# Altium footprint library Analog Devices Amplifiers and Linear Comparators.PcbLib: 67 footprints (part 4 of 5)
Each footprint in its own frame and in the unit in brackets; x right, y up, seen from the top. Pads: shape width x height; smd on the part's side, far side on the other; paste and mask are expansions set on the pad; w line width, h text height; cw(c..) or ccw(c..) is an arc to the next point about the centre after c.
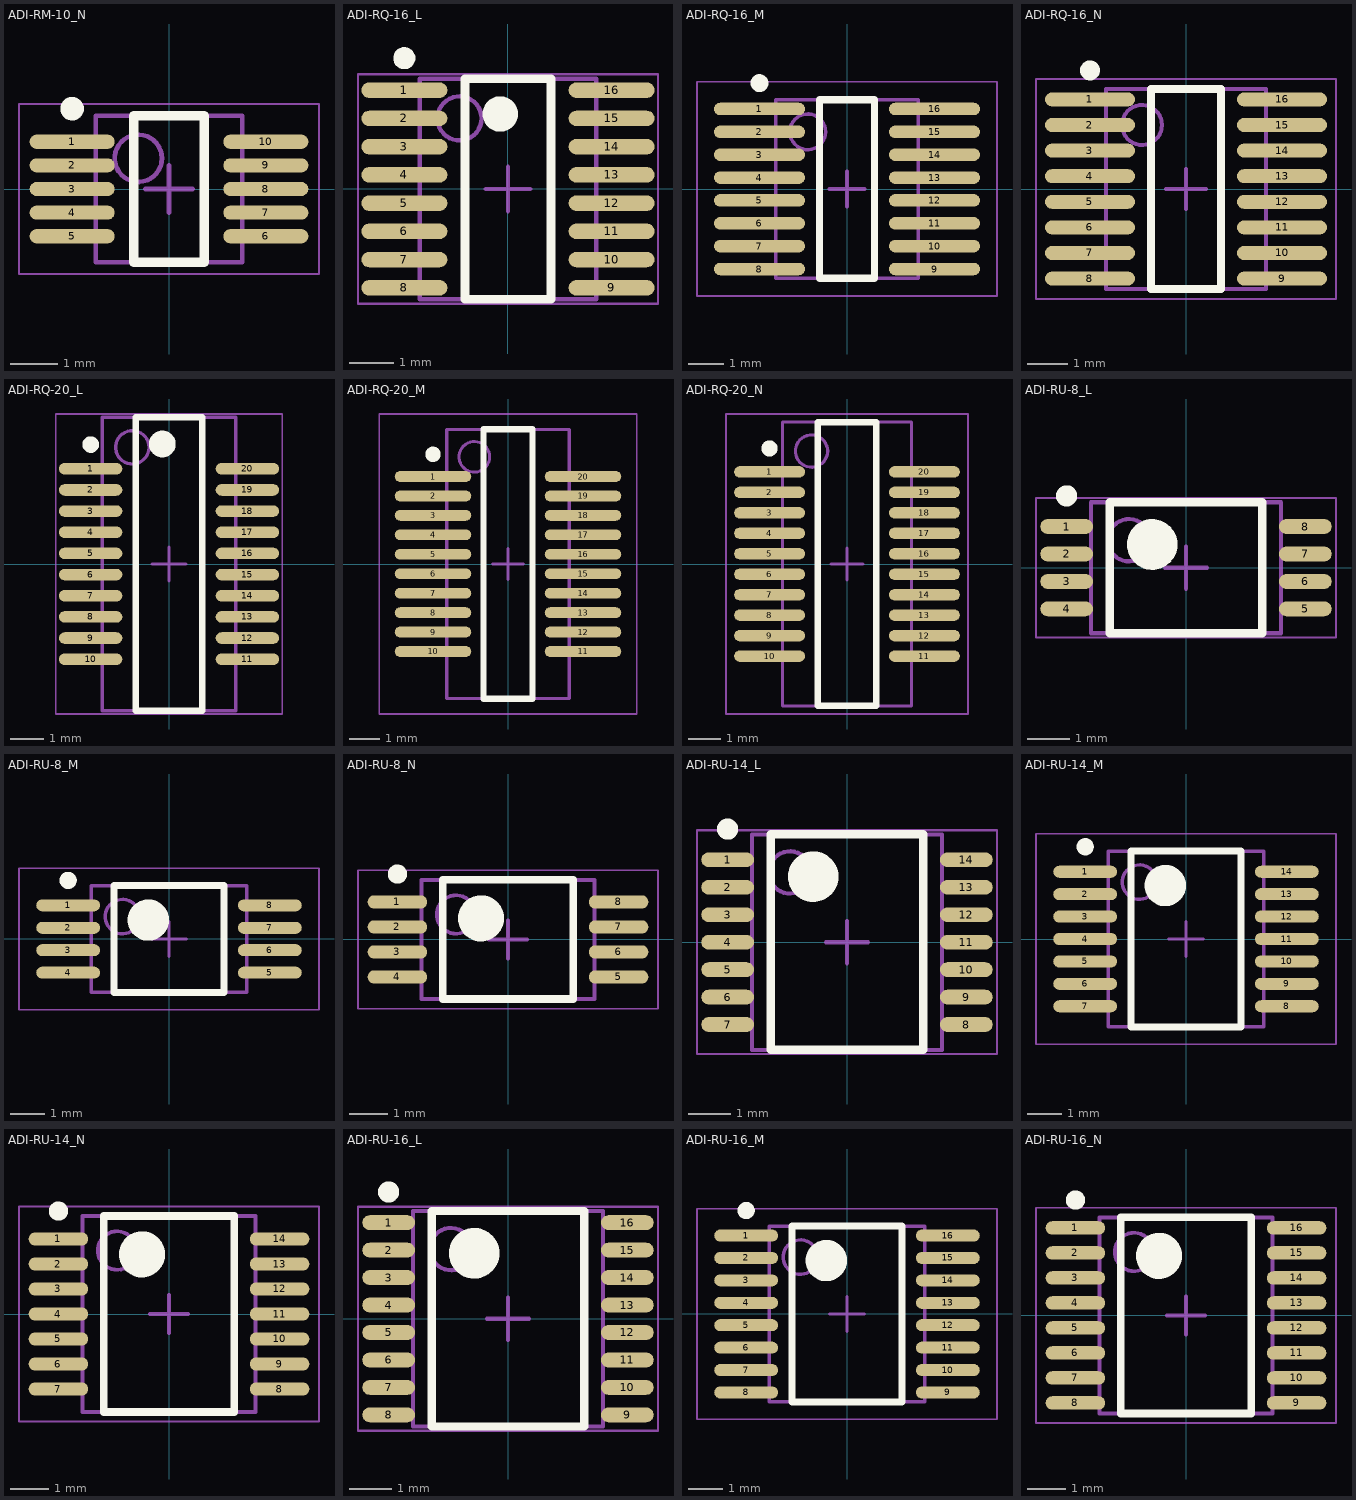
[diagram p3: the footprints below, top view; thin cyan lines are the x and y axes]

## ADI-RM-10_N [mm] "SOP, 10-Leads, Body 3x3mm, Pitch 0.5mm, IPC Medium Density"
height 1.1
pads (10):
  oval 1.8x0.3 smd: 1(-2.05,1) 2(-2.05,0.5) 3(-2.05,0) 4(-2.05,-0.5) 5(-2.05,-1) 6(2.05,-1) 7(2.05,-0.5) 8(2.05,0) 9(2.05,0.5) 10(2.05,1)
Top Overlay:
  circle w0.25: c-2.05,1.7 r0.125
  lines w0.2: -0.75,-1.55 0.75,-1.55 0.75,1.55 -0.75,1.55 -0.75,-1.55
Mechanical 13:
  circle w0.1: c-0.65,0.65 r0.5
  lines w0.1: -1.55,-1.55 1.55,-1.55 1.55,1.55 -1.55,1.55 -1.55,-1.55
Mechanical 15:
  lines w0.05: -3.175,-1.8 3.175,-1.8 3.175,1.8 -3.175,1.8 -3.175,-1.8
  lines w0.1: -0.5,0 0.5,0 ; 0,-0.5 0,0.5
3D body: height 1.1, standoff 0.05, extent -1.55,-1.55 1.55,1.55

## ADI-RQ-16_L [mm] "SOP, 16-Leads, Body 4.9x3.9mm, Pitch 0.64mm, IPC High Density"
height 1.75
pads (16):
  oval 1.95x0.35 smd: 1(-2.35,2.24) 2(-2.35,1.6) 3(-2.35,0.96) 4(-2.35,0.32) 5(-2.35,-0.32) 6(-2.35,-0.96) 7(-2.35,-1.6) 8(-2.35,-2.24) 9(2.35,-2.24) 10(2.35,-1.6) 11(2.35,-0.96) 12(2.35,-0.32) 13(2.35,0.32) 14(2.35,0.96) 15(2.35,1.6) 16(2.35,2.24)
Top Overlay:
  circle w0.25: c-2.35,2.965 r0.125
  circle w0.4: c-0.175,1.7 r0.2
  lines w0.2: -0.975,-2.5 -0.975,2.5 0.975,2.5 0.975,-2.5 -0.975,-2.5
Mechanical 13:
  circle w0.1: c-1.1,1.6 r0.5
  lines w0.1: -2,-2.5 -2,2.5 2,2.5 2,-2.5 -2,-2.5
Mechanical 15:
  lines w0.05: -3.4,-2.6 -3.4,2.6 3.4,2.6 3.4,-2.6 -3.4,-2.6
  lines w0.1: -0.5,0 0.5,0 ; 0,-0.5 0,0.5
3D body: height 1.75, standoff 0.1, extent -2,-2.5 2,2.5

## ADI-RQ-16_M [mm] "SOP, 16-Leads, Body 4.9x3.9mm, Pitch 0.64mm, IPC Low Density"
height 1.75
pads (16):
  oval 2.55x0.35 smd: 1(-2.45,2.24) 2(-2.45,1.6) 3(-2.45,0.96) 4(-2.45,0.32) 5(-2.45,-0.32) 6(-2.45,-0.96) 7(-2.45,-1.6) 8(-2.45,-2.24) 9(2.45,-2.24) 10(2.45,-1.6) 11(2.45,-0.96) 12(2.45,-0.32) 13(2.45,0.32) 14(2.45,0.96) 15(2.45,1.6) 16(2.45,2.24)
Top Overlay:
  circle w0.25: c-2.45,2.965 r0.125
  lines w0.2: -0.775,-2.5 -0.775,2.5 0.775,2.5 0.775,-2.5 -0.775,-2.5
Mechanical 13:
  circle w0.1: c-1.1,1.6 r0.5
  lines w0.1: -2,-2.5 -2,2.5 2,2.5 2,-2.5 -2,-2.5
Mechanical 15:
  lines w0.05: -4.2,-3 -4.2,3 4.2,3 4.2,-3 -4.2,-3
  lines w0.1: -0.5,0 0.5,0 ; 0,-0.5 0,0.5
3D body: height 1.75, standoff 0.1, extent -2,-2.5 2,2.5

## ADI-RQ-16_N [mm] "SOP, 16-Leads, Body 4.9x3.9mm, Pitch 0.64mm, IPC Medium Density"
height 1.75
pads (16):
  oval 2.25x0.35 smd: 1(-2.4,2.24) 2(-2.4,1.6) 3(-2.4,0.96) 4(-2.4,0.32) 5(-2.4,-0.32) 6(-2.4,-0.96) 7(-2.4,-1.6) 8(-2.4,-2.24) 9(2.4,-2.24) 10(2.4,-1.6) 11(2.4,-0.96) 12(2.4,-0.32) 13(2.4,0.32) 14(2.4,0.96) 15(2.4,1.6) 16(2.4,2.24)
Top Overlay:
  circle w0.25: c-2.4,2.965 r0.125
  lines w0.2: -0.875,-2.5 0.875,-2.5 0.875,2.5 -0.875,2.5 -0.875,-2.5
Mechanical 13:
  circle w0.1: c-1.1,1.6 r0.5
  lines w0.1: -2,-2.5 2,-2.5 2,2.5 -2,2.5 -2,-2.5
Mechanical 15:
  lines w0.05: -3.75,-2.75 3.75,-2.75 3.75,2.75 -3.75,2.75 -3.75,-2.75
  lines w0.1: -0.5,0 0.5,0 ; 0,-0.5 0,0.5
3D body: height 1.75, standoff 0.1, extent -2,-2.5 2,2.5

## ADI-RQ-20_L [mm] "SOP, 20-Leads, Body 8.66x3.9mm, Pitch 0.635mm, IPC High Density"
height 1.76
pads (20):
  oval 1.9x0.35 smd: 1(-2.35,2.857) 2(-2.35,2.222) 3(-2.35,1.587) 4(-2.35,0.953) 5(-2.35,0.318) 6(-2.35,-0.318) 7(-2.35,-0.953) 8(-2.35,-1.587) 9(-2.35,-2.222) 10(-2.35,-2.857) 11(2.35,-2.857) 12(2.35,-2.222) 13(2.35,-1.587) 14(2.35,-0.953) 15(2.35,-0.318) 16(2.35,0.318) 17(2.35,0.953) 18(2.35,1.587) 19(2.35,2.222) 20(2.35,2.857)
Top Overlay:
  circle w0.25: c-2.35,3.582 r0.125
  circle w0.4: c-0.2,3.6 r0.2
  lines w0.2: -1,-4.4 -1,4.4 1,4.4 1,-4.4 -1,-4.4
Mechanical 13:
  circle w0.1: c-1.1,3.5 r0.5
  lines w0.1: -2,-4.4 -2,4.4 2,4.4 2,-4.4 -2,-4.4
Mechanical 15:
  lines w0.05: -3.4,-4.5 -3.4,4.5 3.4,4.5 3.4,-4.5 -3.4,-4.5
  lines w0.1: -0.5,0 0.5,0 ; 0,-0.5 0,0.5
3D body: height 1.76, standoff 0.1, extent -2,-4.4 2,4.4

## ADI-RQ-20_M [mm] "SOP, 20-Leads, Body 8.66x3.9mm, Pitch 0.635mm, IPC Low Density"
height 1.76
pads (20):
  oval 2.5x0.35 smd: 1(-2.45,2.857) 2(-2.45,2.222) 3(-2.45,1.587) 4(-2.45,0.953) 5(-2.45,0.318) 6(-2.45,-0.318) 7(-2.45,-0.953) 8(-2.45,-1.587) 9(-2.45,-2.222) 10(-2.45,-2.857) 11(2.45,-2.857) 12(2.45,-2.222) 13(2.45,-1.587) 14(2.45,-0.953) 15(2.45,-0.318) 16(2.45,0.318) 17(2.45,0.953) 18(2.45,1.587) 19(2.45,2.222) 20(2.45,2.857)
Top Overlay:
  circle w0.25: c-2.45,3.582 r0.125
  lines w0.2: -0.8,-4.4 -0.8,4.4 0.8,4.4 0.8,-4.4 -0.8,-4.4
Mechanical 13:
  circle w0.1: c-1.1,3.5 r0.5
  lines w0.1: -2,-4.4 -2,4.4 2,4.4 2,-4.4 -2,-4.4
Mechanical 15:
  lines w0.05: -4.2,-4.9 -4.2,4.9 4.2,4.9 4.2,-4.9 -4.2,-4.9
  lines w0.1: -0.5,0 0.5,0 ; 0,-0.5 0,0.5
3D body: height 1.76, standoff 0.1, extent -2,-4.4 2,4.4

## ADI-RQ-20_N [mm] "SOP, 20-Leads, Body 8.66x3.9mm, Pitch 0.635mm, IPC Medium Density"
height 1.76
pads (20):
  oval 2.2x0.35 smd: 1(-2.4,2.857) 2(-2.4,2.222) 3(-2.4,1.587) 4(-2.4,0.953) 5(-2.4,0.318) 6(-2.4,-0.318) 7(-2.4,-0.953) 8(-2.4,-1.587) 9(-2.4,-2.222) 10(-2.4,-2.857) 11(2.4,-2.857) 12(2.4,-2.222) 13(2.4,-1.587) 14(2.4,-0.953) 15(2.4,-0.318) 16(2.4,0.318) 17(2.4,0.953) 18(2.4,1.587) 19(2.4,2.222) 20(2.4,2.857)
Top Overlay:
  circle w0.25: c-2.4,3.582 r0.125
  lines w0.2: -0.9,-4.4 -0.9,4.4 0.9,4.4 0.9,-4.4 -0.9,-4.4
Mechanical 13:
  circle w0.1: c-1.1,3.5 r0.5
  lines w0.1: -2,-4.4 -2,4.4 2,4.4 2,-4.4 -2,-4.4
Mechanical 15:
  lines w0.05: -3.75,-4.65 -3.75,4.65 3.75,4.65 3.75,-4.65 -3.75,-4.65
  lines w0.1: -0.5,0 0.5,0 ; 0,-0.5 0,0.5
3D body: height 1.76, standoff 0.1, extent -2,-4.4 2,4.4

## ADI-RU-8_L [mm] "SOP, 8-Leads, Body 4.4x3mm, Pitch 0.65mm, IPC High Density"
height 1.2
pads (8):
  oval 1.25x0.35 smd: 1(-2.825,0.975) 2(-2.825,0.325) 3(-2.825,-0.325) 4(-2.825,-0.975) 5(2.825,-0.975) 6(2.825,-0.325) 7(2.825,0.325) 8(2.825,0.975)
Top Overlay:
  circle w0.25: c-2.825,1.7 r0.125
  circle w0.6: c-0.8,0.55 r0.3
  lines w0.2: -1.8,-1.55 -1.8,1.55 1.8,1.55 1.8,-1.55 -1.8,-1.55
Mechanical 13:
  circle w0.1: c-1.35,0.65 r0.5
  lines w0.1: -2.25,-1.55 -2.25,1.55 2.25,1.55 2.25,-1.55 -2.25,-1.55
Mechanical 15:
  lines w0.05: -3.55,-1.65 -3.55,1.65 3.55,1.65 3.55,-1.65 -3.55,-1.65
  lines w0.1: -0.5,0 0.5,0 ; 0,-0.5 0,0.5
3D body: height 1.2, standoff 0.05, extent -2.25,-1.55 2.25,1.55

## ADI-RU-8_M [mm] "SOP, 8-Leads, Body 4.4x3mm, Pitch 0.65mm, IPC Low Density"
height 1.2
pads (8):
  oval 1.85x0.35 smd: 1(-2.925,0.975) 2(-2.925,0.325) 3(-2.925,-0.325) 4(-2.925,-0.975) 5(2.925,-0.975) 6(2.925,-0.325) 7(2.925,0.325) 8(2.925,0.975)
Top Overlay:
  circle w0.25: c-2.925,1.7 r0.125
  circle w0.6: c-0.6,0.55 r0.3
  lines w0.2: -1.6,-1.55 -1.6,1.55 1.6,1.55 1.6,-1.55 -1.6,-1.55
Mechanical 13:
  circle w0.1: c-1.35,0.65 r0.5
  lines w0.1: -2.25,-1.55 -2.25,1.55 2.25,1.55 2.25,-1.55 -2.25,-1.55
Mechanical 15:
  lines w0.05: -4.35,-2.05 -4.35,2.05 4.35,2.05 4.35,-2.05 -4.35,-2.05
  lines w0.1: -0.5,0 0.5,0 ; 0,-0.5 0,0.5
3D body: height 1.2, standoff 0.05, extent -2.25,-1.55 2.25,1.55

## ADI-RU-8_N [mm] "SOP, 8-Leads, Body 4.4x3mm, Pitch 0.65mm, IPC Medium Density"
height 1.2
pads (8):
  oval 1.55x0.35 smd: 1(-2.875,0.975) 2(-2.875,0.325) 3(-2.875,-0.325) 4(-2.875,-0.975) 5(2.875,-0.975) 6(2.875,-0.325) 7(2.875,0.325) 8(2.875,0.975)
Top Overlay:
  circle w0.25: c-2.875,1.7 r0.125
  circle w0.6: c-0.7,0.55 r0.3
  lines w0.2: -1.7,-1.55 -1.7,1.55 1.7,1.55 1.7,-1.55 -1.7,-1.55
Mechanical 13:
  circle w0.1: c-1.35,0.65 r0.5
  lines w0.1: -2.25,-1.55 -2.25,1.55 2.25,1.55 2.25,-1.55 -2.25,-1.55
Mechanical 15:
  lines w0.05: -3.9,-1.8 -3.9,1.8 3.9,1.8 3.9,-1.8 -3.9,-1.8
  lines w0.1: -0.5,0 0.5,0 ; 0,-0.5 0,0.5
3D body: height 1.2, standoff 0.05, extent -2.25,-1.55 2.25,1.55

## ADI-RU-14_L [mm] "SOP, 14-Leads, Body 5x4.4mm, Pitch 0.65mm, IPC High Density"
height 1.2
pads (14):
  oval 1.25x0.35 smd: 1(-2.825,1.95) 2(-2.825,1.3) 3(-2.825,0.65) 4(-2.825,0) 5(-2.825,-0.65) 6(-2.825,-1.3) 7(-2.825,-1.95) 8(2.825,-1.95) 9(2.825,-1.3) 10(2.825,-0.65) 11(2.825,0) 12(2.825,0.65) 13(2.825,1.3) 14(2.825,1.95)
Top Overlay:
  circle w0.25: c-2.825,2.675 r0.125
  circle w0.6: c-0.8,1.55 r0.3
  lines w0.2: -1.8,-2.55 -1.8,2.55 1.8,2.55 1.8,-2.55 -1.8,-2.55
Mechanical 13:
  circle w0.1: c-1.35,1.65 r0.5
  lines w0.1: -2.25,-2.55 -2.25,2.55 2.25,2.55 2.25,-2.55 -2.25,-2.55
Mechanical 15:
  lines w0.05: -3.55,-2.65 -3.55,2.65 3.55,2.65 3.55,-2.65 -3.55,-2.65
  lines w0.1: -0.5,0 0.5,0 ; 0,-0.5 0,0.5
3D body: height 1.2, standoff 0.05, extent -2.25,-2.55 2.25,2.55

## ADI-RU-14_M [mm] "SOP, 14-Leads, Body 5x4.4mm, Pitch 0.65mm, IPC Low Density"
height 1.2
pads (14):
  oval 1.85x0.35 smd: 1(-2.925,1.95) 2(-2.925,1.3) 3(-2.925,0.65) 4(-2.925,0) 5(-2.925,-0.65) 6(-2.925,-1.3) 7(-2.925,-1.95) 8(2.925,-1.95) 9(2.925,-1.3) 10(2.925,-0.65) 11(2.925,0) 12(2.925,0.65) 13(2.925,1.3) 14(2.925,1.95)
Top Overlay:
  circle w0.25: c-2.925,2.675 r0.125
  circle w0.6: c-0.6,1.55 r0.3
  lines w0.2: -1.6,-2.55 -1.6,2.55 1.6,2.55 1.6,-2.55 -1.6,-2.55
Mechanical 13:
  circle w0.1: c-1.35,1.65 r0.5
  lines w0.1: -2.25,-2.55 -2.25,2.55 2.25,2.55 2.25,-2.55 -2.25,-2.55
Mechanical 15:
  lines w0.05: -4.35,-3.05 -4.35,3.05 4.35,3.05 4.35,-3.05 -4.35,-3.05
  lines w0.1: -0.5,0 0.5,0 ; 0,-0.5 0,0.5
3D body: height 1.2, standoff 0.05, extent -2.25,-2.55 2.25,2.55

## ADI-RU-14_N [mm] "SOP, 14-Leads, Body 5x4.4mm, Pitch 0.65mm, IPC Medium Density"
height 1.2
pads (14):
  oval 1.55x0.35 smd: 1(-2.875,1.95) 2(-2.875,1.3) 3(-2.875,0.65) 4(-2.875,0) 5(-2.875,-0.65) 6(-2.875,-1.3) 7(-2.875,-1.95) 8(2.875,-1.95) 9(2.875,-1.3) 10(2.875,-0.65) 11(2.875,0) 12(2.875,0.65) 13(2.875,1.3) 14(2.875,1.95)
Top Overlay:
  circle w0.25: c-2.875,2.675 r0.125
  circle w0.6: c-0.7,1.55 r0.3
  lines w0.2: -1.7,-2.55 -1.7,2.55 1.7,2.55 1.7,-2.55 -1.7,-2.55
Mechanical 13:
  circle w0.1: c-1.35,1.65 r0.5
  lines w0.1: -2.25,-2.55 -2.25,2.55 2.25,2.55 2.25,-2.55 -2.25,-2.55
Mechanical 15:
  lines w0.05: -3.9,-2.8 -3.9,2.8 3.9,2.8 3.9,-2.8 -3.9,-2.8
  lines w0.1: -0.5,0 0.5,0 ; 0,-0.5 0,0.5
3D body: height 1.2, standoff 0.05, extent -2.25,-2.55 2.25,2.55

## ADI-RU-16_L [mm] "SOP, 16-Leads, Body 5x4.4mm, Pitch 0.65mm, IPC High Density"
height 1.2
pads (16):
  oval 1.25x0.35 smd: 1(-2.825,2.275) 2(-2.825,1.625) 3(-2.825,0.975) 4(-2.825,0.325) 5(-2.825,-0.325) 6(-2.825,-0.975) 7(-2.825,-1.625) 8(-2.825,-2.275) 9(2.825,-2.275) 10(2.825,-1.625) 11(2.825,-0.975) 12(2.825,-0.325) 13(2.825,0.325) 14(2.825,0.975) 15(2.825,1.625) 16(2.825,2.275)
Top Overlay:
  circle w0.6: c-0.8,1.55 r0.3
  circle w0.25: c-2.825,3 r0.125
  lines w0.2: -1.8,-2.55 1.8,-2.55 1.8,2.55 -1.8,2.55 -1.8,-2.55
Mechanical 13:
  circle w0.1: c-1.35,1.65 r0.5
  lines w0.1: -2.25,-2.55 2.25,-2.55 2.25,2.55 -2.25,2.55 -2.25,-2.55
Mechanical 15:
  lines w0.05: -3.55,-2.65 3.55,-2.65 3.55,2.65 -3.55,2.65 -3.55,-2.65
  lines w0.1: -0.5,0 0.5,0 ; 0,-0.5 0,0.5
3D body: height 1.2, standoff 0.05, extent -2.25,-2.55 2.25,2.55

## ADI-RU-16_M [mm] "SOP, 16-Leads, Body 5x4.4mm, Pitch 0.65mm, IPC Low Density"
height 1.2
pads (16):
  oval 1.85x0.35 smd: 1(-2.925,2.275) 2(-2.925,1.625) 3(-2.925,0.975) 4(-2.925,0.325) 5(-2.925,-0.325) 6(-2.925,-0.975) 7(-2.925,-1.625) 8(-2.925,-2.275) 9(2.925,-2.275) 10(2.925,-1.625) 11(2.925,-0.975) 12(2.925,-0.325) 13(2.925,0.325) 14(2.925,0.975) 15(2.925,1.625) 16(2.925,2.275)
Top Overlay:
  circle w0.6: c-0.6,1.55 r0.3
  circle w0.25: c-2.925,3 r0.125
  lines w0.2: -1.6,-2.55 1.6,-2.55 1.6,2.55 -1.6,2.55 -1.6,-2.55
Mechanical 13:
  circle w0.1: c-1.35,1.65 r0.5
  lines w0.1: -2.25,-2.55 2.25,-2.55 2.25,2.55 -2.25,2.55 -2.25,-2.55
Mechanical 15:
  lines w0.05: -4.35,-3.05 4.35,-3.05 4.35,3.05 -4.35,3.05 -4.35,-3.05
  lines w0.1: -0.5,0 0.5,0 ; 0,-0.5 0,0.5
3D body: height 1.2, standoff 0.05, extent -2.25,-2.55 2.25,2.55

## ADI-RU-16_N [mm] "SOP, 16-Leads, Body 5x4.4mm, Pitch 0.65mm, IPC Medium Density"
height 1.2
pads (16):
  oval 1.55x0.35 smd: 1(-2.875,2.275) 2(-2.875,1.625) 3(-2.875,0.975) 4(-2.875,0.325) 5(-2.875,-0.325) 6(-2.875,-0.975) 7(-2.875,-1.625) 8(-2.875,-2.275) 9(2.875,-2.275) 10(2.875,-1.625) 11(2.875,-0.975) 12(2.875,-0.325) 13(2.875,0.325) 14(2.875,0.975) 15(2.875,1.625) 16(2.875,2.275)
Top Overlay:
  circle w0.25: c-2.875,3 r0.125
  circle w0.6: c-0.7,1.55 r0.3
  lines w0.2: -1.7,-2.55 -1.7,2.55 1.7,2.55 1.7,-2.55 -1.7,-2.55
Mechanical 13:
  circle w0.1: c-1.35,1.65 r0.5
  lines w0.1: -2.25,-2.55 -2.25,2.55 2.25,2.55 2.25,-2.55 -2.25,-2.55
Mechanical 15:
  lines w0.05: -3.9,-2.8 -3.9,2.8 3.9,2.8 3.9,-2.8 -3.9,-2.8
  lines w0.1: -0.5,0 0.5,0 ; 0,-0.5 0,0.5
3D body: height 1.2, standoff 0.05, extent -2.25,-2.55 2.25,2.55